# Altium footprint library RES_1.1K_0603.PcbLib: 1 footprints
Each footprint in its own frame and in the unit in brackets; x right, y up, seen from the top. Pads: shape width x height; smd on the part's side, far side on the other; paste and mask are expansions set on the pad; w line width, h text height; cw(c..) or ccw(c..) is an arc to the next point about the centre after c.
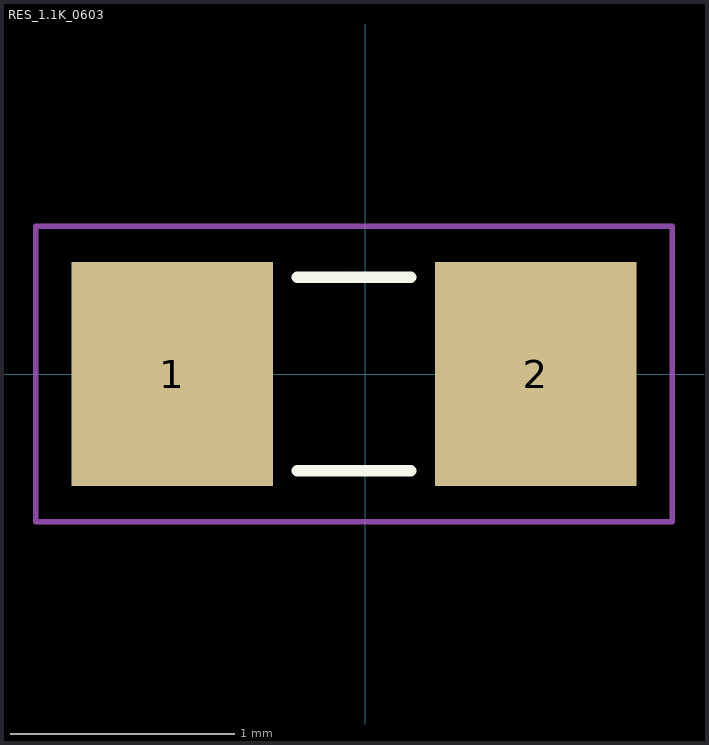
[diagram p0: the footprint, top view; thin cyan lines are the x and y axes]

## RES_1.1K_0603 [mm]
pads (2):
  rect 0.9x1 smd: 1(-0.864,0) 2(0.762,0)
Top Overlay:
  lines w0.051: -0.305,-0.432 0.203,-0.432 ; -0.305,0.432 0.203,0.432
Assembly Notes:
  lines w0.025: -1.473,-0.66 -1.473,0.66 1.372,0.66 1.372,-0.66 -1.473,-0.66
  text ".designator" at -1.448,-0.134 h0.64
3D body "RES_10K_0603.step": height 0.71, standoff 0, extent -0.851,-0.406 0.749,0.406